# Altium integrated library AVR-ISP.IntLib: 1 symbol
Pins are listed as number, name and electrical type; pins without a type are passive.

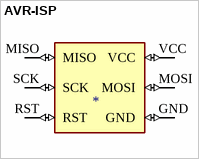
[diagram p0: symbol AVR-ISP]

## AVR-ISP
designator ?
Emulators / Simulators AVR USB IN CIRCUIT EMUL/PRGMR ISP; MP: AVR-ISP; MF: Gravitech; SnapEDA_Link: https://www.snapeda.com/parts/AVR-ISP/Gravitech/view-part/4593377/?ref=snap; Availability: Unavailable; Price: None; Value: *; Package: None
footprint AVR-ISP
pins: GND (io), MISO (io), MOSI (io), RST (io), SCK (io), VCC (io)